# EAGLE library part ATTINY84/44/24 (library Synapseware-avr)
ATtiny24, ATtiny44, ATtiny84 8-bit tiny AVR microcontroller
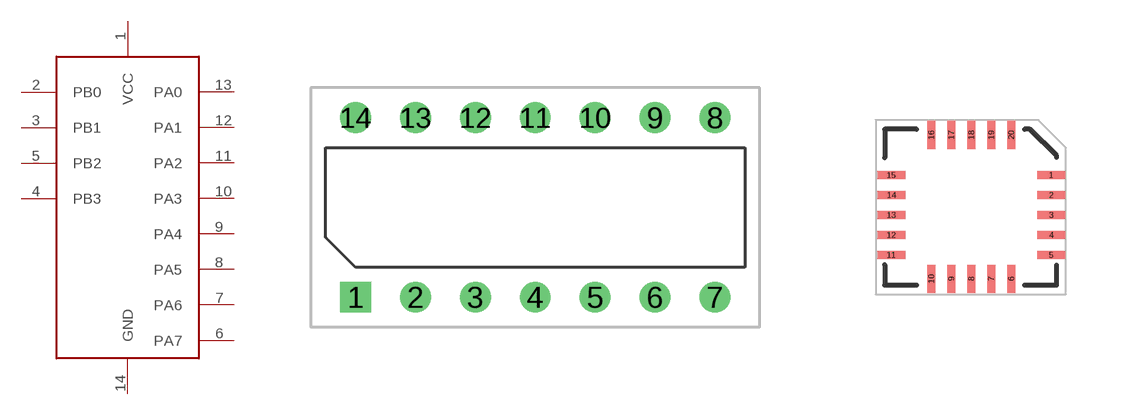
[diagram p2: symbol with the pads of PDIP-14; footprints PDIP-14, QFN-20]

Designator prefix -

## ATTINY84/44/24-DIP  [PDIP-14]
1  VCC
2  PB0
3  PB1
4  PB3
5  PB2
6  PA7
7  PA6
8  PA5
9  PA4
10  PA3
11  PA2
12  PA1
13  PA0
14  GND

## ATTINY84/44/24-QFN20  [QFN-20]
1  PA4
2  PA3
3  PA2
4  PA1
5  PA0
8  GND
9  VCC
11  PB0
12  PB1
13  PB3
14  PB2
15  PA7
16  PA6
20  PA5

## ATTINY84/44/24-SOIC14  [SOIC-14]
1  GND
2  PB0
3  PB1
4  PB3
5  PB2
6  PA7
7  PA6
8  PA5
9  PA4
10  PA3
11  PA2
12  PA1
13  PA0
14  VCC

## Footprint PDIP-14 (pad centres in mm)
drill 0.8 square: 1 0,0
drill 0.8: 2 2.54,0; 3 5.08,0; 4 7.62,0; 5 10.16,0; 6 12.7,0; 7 15.24,0; 8 15.24,7.62; 9 12.7,7.62; 10 10.16,7.62; 11 7.62,7.62; 12 5.08,7.62; 13 2.54,7.62; 14 0,7.62

## Footprint QFN-20 (pad centres in mm)
QFN-20
smd 0.7 x 0.2: 1 2,1; 2 2,0.5; 3 2,0; 4 2,-0.5; 5 2,-1; 11 -2,-1; 12 -2,-0.5; 13 -2,0; 14 -1.995,0.5; 15 -2,1
smd 0.2 x 0.7: 6 1,-1.6; 7 0.5,-1.6; 8 0,-1.6; 9 -0.5,-1.6; 10 -1,-1.6; 16 -1,2; 17 -0.5,2; 18 0,2; 19 0.5,2; 20 1,2

## Footprint SOIC-14 (pad centres in mm)
SOIC-14 (UNTESTED)
smd 0.508 x 1.27: 1 -4.445,-3.556; 2 -3.175,-3.556; 3 -1.905,-3.556; 4 -0.635,-3.556; 5 0.635,-3.556; 6 1.905,-3.556; 7 3.175,-3.556; 8 3.175,3.656; 9 1.905,3.683; 10 0.635,3.683; 11 -0.635,3.683; 12 -1.905,3.683; 13 -3.175,3.683; 14 -4.445,3.683